# Altium footprint library PHDR-2X3-TH-M.PcbLib: 1 footprints
Each footprint in its own frame and in the unit in brackets; x right, y up, seen from the top. Pads: shape width x height; smd on the part's side, far side on the other; paste and mask are expansions set on the pad; w line width, h text height; cw(c..) or ccw(c..) is an arc to the next point about the centre after c.
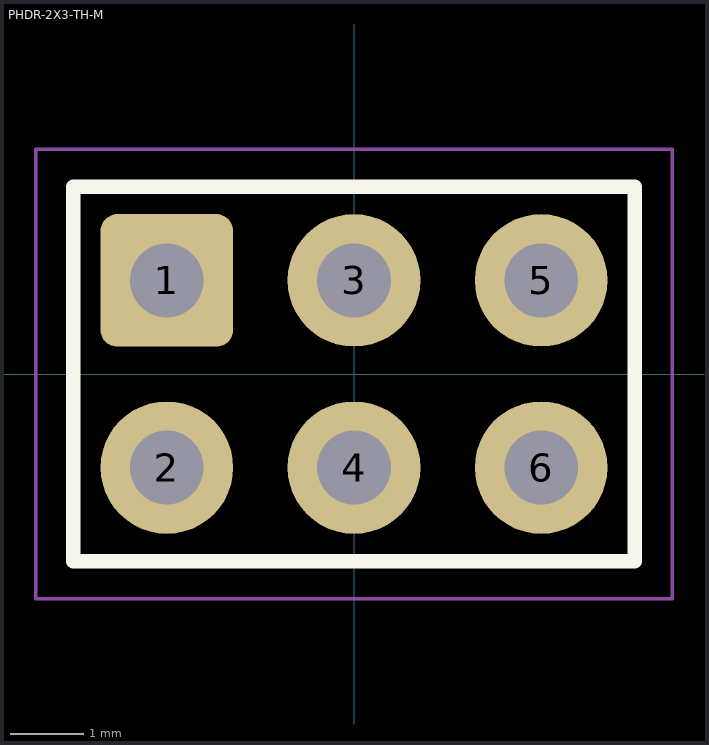
[diagram p0: the footprint, top view; thin cyan lines are the x and y axes]

## PHDR-2X3-TH-M [mm] "PinHeader 2x3 TH Pitch 2.54mm"
height 9.5
pads (6):
  rrect25% 1.8x1.8 hole 1: 1(-2.54,1.27)
  round 1.8 hole 1: 2(-2.54,-1.27) 3(0,1.27) 4(0,-1.27) 5(2.54,1.27) 6(2.54,-1.27)
Top Overlay:
  lines w0.2: -3.81,-2.54 3.81,-2.54 3.81,2.54 -3.81,2.54 -3.81,0 -3.81,-2.54
Top Assembly:
  lines w0.1: -3.81,-2.54 3.81,-2.54 3.81,2.54 -3.81,2.54 -3.81,-2.54
Top Courtyard:
  lines w0.05: -4.318,-3.048 -4.318,3.048 4.318,3.048 4.318,-3.048 -4.318,-3.048
Top Designator:
  text ".Designator" at -7.498,-0.5 h1.5
3D body "Pin Header 2x3 TH Pitch 2.54mm.stp": height 9.5, standoff -3.2, extent -3.81,-2.54 3.81,2.54